# Altium footprint library SmallHandheldRev1.PcbLib: 31 footprints (part 1 of 2)
Each footprint in its own frame and in the unit in brackets; x right, y up, seen from the top. Pads: shape width x height; smd on the part's side, far side on the other; paste and mask are expansions set on the pad; w line width, h text height; cw(c..) or ccw(c..) is an arc to the next point about the centre after c.
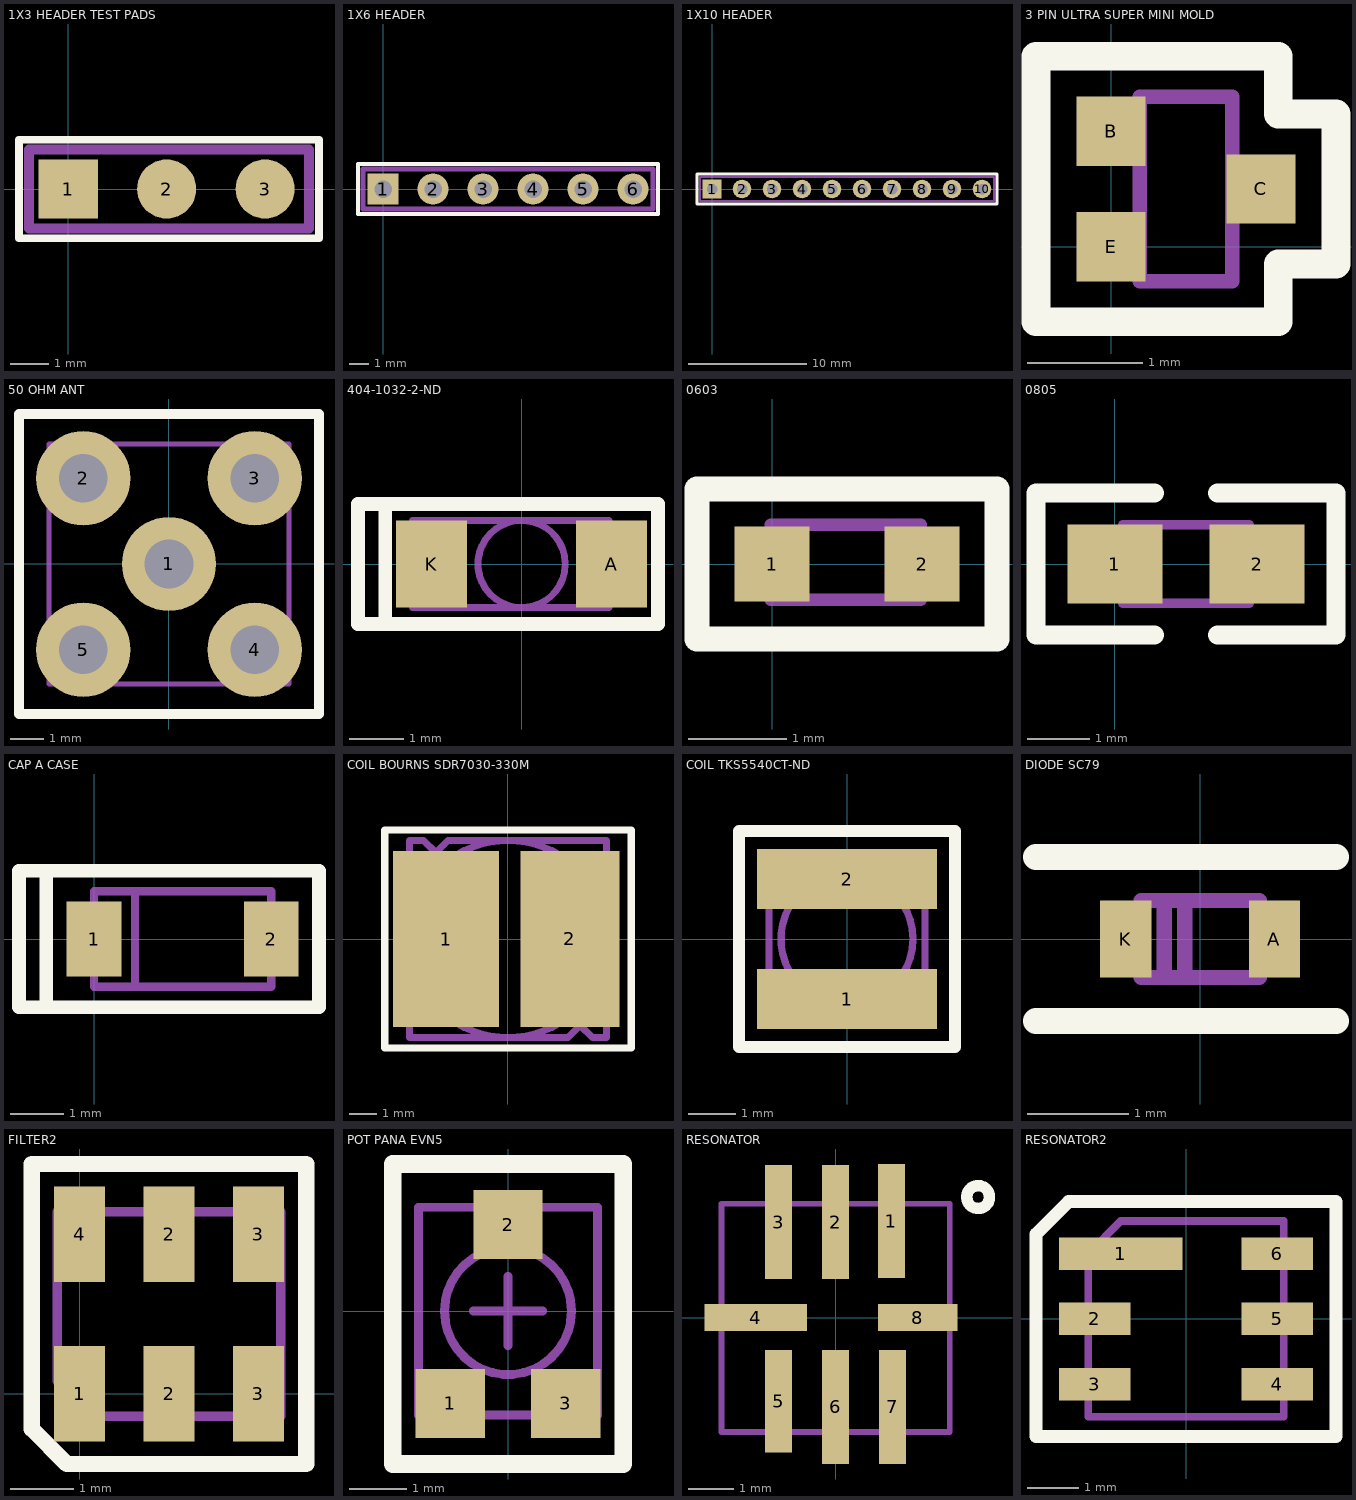
[diagram p0: the footprints below, top view; thin cyan lines are the x and y axes]

## 1X3 HEADER TEST PADS [mil]
pads (3):
  rect 60x60 smd: 1(0,0)
  round 60 smd: 2(100,0) 3(200,0)
Top Overlay:
  lines w8: -50,-50 -50,50 254.72,50 254.72,-50 -50,-50
Mechanical 1:
  lines w10: -40,-40 -40,40 244.72,40 244.72,-40 -40,-40
Mechanical 8:
  text ".Designator" at 102.37,33 h17
Mechanical 9:
  text ".Comment" at 46.37,-110 h40

## 1X6 HEADER [mil]
pads (6):
  rect 62x62 hole 35: 1(0,0)
  round 62 hole 35: 2(100,0) 3(200,0) 4(300,0) 5(400,0) 6(500,0)
Top Overlay:
  lines w8: -50,-50 550,-50 550,50 -50,50 -50,-50
Mechanical 1:
  lines w10: -40,-40 540,-40 540,40 -40,40 -40,-40

## 1X10 HEADER [mil]
pads (10):
  rect 62x62 hole 35: 1(0,0)
  round 62 hole 35: 2(100,0) 3(200,0) 4(300,0) 5(400,0) 6(500,0) 7(600,0) 8(700,0) 9(800,0) 10(900,0)
Top Overlay:
  lines w10: -50,-50 950,-50 950,50 -50,50 -50,0 -50,-50
Mechanical 1:
  lines w6: -40,-40 940,-40 940,40 -40,40 -40,-40
Mechanical 8:
  text ".Designator" at 41,7 h17

## 3 PIN ULTRA SUPER MINI MOLD [mm]
pads (3):
  rect 0.6x0.6 smd: B(0,1) C(1.3,0.5) E(0,0)
Top Overlay:
  lines w0.25: -0.65,-0.65 1.45,-0.65 1.45,-0.15 1.95,-0.15 1.95,1.15 1.45,1.15 1.45,1.65 -0.65,1.65 -0.65,1.6 -0.65,-0.65
Mechanical 1:
  lines w0.125: 0.25,-0.15 -0.15,-0.15 -0.15,0.15 0.25,0.15 ; 0.25,0.85 -0.15,0.85 -0.15,1.15 0.25,1.15 ; 1.05,0.35 1.45,0.35 1.45,0.65 1.05,0.65 ; 0.25,-0.3 0.25,1.3 1.05,1.3 1.05,-0.3 0.25,-0.3
Mechanical 8:
  text ".Designator" at 0.448,0.817 h0.43

## 50 OHM ANT [mil]
pads (5):
  round 110 hole 57: 1(0,0) 2(-100,100) 3(100,100) 4(100,-100) 5(-100,-100)
Top Overlay:
  lines w12: -175,-175 175,-175 175,0 175,175 -175,175 -175,-175
Mechanical 1:
  lines w6: -140,-140 140,-140 140,0 140,140 -140,140 -140,-140
Mechanical 8:
  text ".Designator" at 6,-17 h17

## 404-1032-2-ND [mm]
height 9.525
pads (2):
  rect 1.3x1.6 smd: A(1.65,0) K(-1.65,0)
Top Overlay:
  lines w0.25: -2.5,-1.1 -2.5,1.1 ; -2.5,-1.1 2.5,-1.1 2.5,1.1 -2.5,1.1 ; -2.5,-1.1 -3,-1.1 -3,1.1 -2.5,1.1
Mechanical 1:
  circle w0.127: c0,0 r0.8
  lines w0.127: 0,0.8 1.6,0.8 ; -1.6,-0.8 -2,-0.8 -2,0.8 -1.6,0.8 ; -1.6,-0.8 -1.6,0.8 ; -1.6,-0.8 1.6,-0.8 1.6,0.8 ; -1.6,0.8 1.6,0.8
Mechanical 8:
  text ".Designator" at 0.194,-0.762 h0.43

## 0603 [mil]
pads (2):
  rect 30x30 smd: 1(0,0) 2(60,0)
Top Overlay:
  lines w10: -30,-30 90,-30 90,30 -30,30 -30,0 -30,-30
Mechanical 1:
  lines w5: -0.53,-14.25 -0.53,15.75 59.47,15.75 59.47,-14.25 -0.53,-14.25
Mechanical 8:
  text ".Designator" at -10,-70 h30

## 0805 [mil]
pads (2):
  rect 60x50 smd: 1(0,0) 2(90,0)
Top Overlay:
  lines w12: 25,-45 -50,-45 -50,45 25,45 ; 65,-45 140,-45 140,45 65,45
Mechanical 1:
  lines w6: 5,-25 85,-25 85,25 5,25 5,-25
Mechanical 8:
  text ".Designator" at 34.52,12.88 h17

## CAP A CASE [mil]
pads (2):
  rect 40x55 smd: 1(0,0) 2(130,0)
Top Overlay:
  lines w10: -35,-50 165,-50 165,50 100,50 -35,50 ; -35,-50 -35,50 ; -35,-50 -55,-50 -55,50 -35,50
Mechanical 1:
  lines w6: 30,-35 30,35 ; 65,35 130,35 ; 130,0 130,-35 ; 130,-35 130,35 ; 130,-35 0,-35 0,35 130,35
Mechanical 8:
  text ".Designator" at 99.16,7.35 h17

## COIL BOURNS SDR7030-330M [mil]
pads (2):
  rect 150x250 smd: 1(-88,0)
  rect 140x250 smd: 2(88,0)
Top Overlay:
  lines w10: -175,-155 -175,0 -175,155 0,155 175,155 175,0 175,-155 0,-155 -175,-155
Mechanical 1:
  circle w10: c0,0 r140
  lines w10: -122.71,102.29 -140,119.58 -140,140 -120,140 -102.57,122.57 ; 102.57,-122.57 120,-140 140,-140 140,-119.58 122.71,-102.29 ; -140,-140 85,-140 140,-85 140,140 0,140 -85,140 -140,85 -140,-140
Mechanical 8:
  text ".Designator" at -0.63,23 h17
Mechanical 9:
  text ".Comment" at -181.63,25 h15

## COIL TKS5540CT-ND [mil]
pads (2):
  rect 150x50 smd: 1(0,-50) 2(0,50)
Top Overlay:
  lines w10: -90,-90 -60,-90 90,-90 90,0 90,90 60,90 -90,90 -90,0 -90,-90
Mechanical 1:
  circle w6: c0,0 r55
  lines w6: -65,-65 -65,65 65,65 65,0 65,-65 -65,-65
Mechanical 8:
  text ".Designator" at -7.46,10.17 h17

## DIODE SC79 [mil]
pads (2):
  rect 20x30 smd: A(29,0) K(-29,0)
Top Overlay:
  lines w10: -64,-32 -53,-32 -36,-32 53,-32 ; -64,32 -53,32 36,32 53,32
Mechanical 1:
  lines w6: -31,0 -23,0 ; -6,15 -6,-15 -14,-15 -14,15 -23,15 ; 0,15 -23,15 ; 23,0 31,0 ; -23,15 -23,-15 23,-15 23,15 -23,15
Mechanical 8:
  text ".Designator" at -13,-41 h17

## FILTER2 [mm]
pads (6):
  rect 0.8x1.5 smd: 1(0,0) 2(1.4,0) 2(1.4,2.5) 3(2.8,0) 3(2.8,2.5) 4(0,2.5)
Top Overlay:
  lines w0.254: -0.75,-0.55 -0.2,-1.1 3.55,-1.1 3.55,1.25 3.55,3.6 3,3.6 -0.75,3.6 -0.75,1.25 -0.75,-0.55
Mechanical 1:
  lines w0.152: 1.4,2.85 -0.35,2.85 ; -0.35,2.85 -0.35,0.2 0.2,-0.35 3.15,-0.35 3.15,2.85 -0.35,2.85
Mechanical 8:
  text ".Designator" at 1.307,1.711 h0.43

## POT PANA EVN5 [mm]
pads (3):
  rect 1.2x1.2 smd: 1(-1,-1.6) 2(0,1.5) 3(1,-1.6)
Top Overlay:
  lines w0.305: -2,-2.65 0,-2.65 2,-2.65 2,2.55 0,2.55 -2,2.55 -2,-2.65
Mechanical 1:
  circle w0.152: c0,0 r1.1
  lines w0.152: -0.6,0 0,0 ; 0,-0.6 0,0 ; 0,0.6 0,0 ; 0,1.8 -1.55,1.8 ; 0.6,0 0,0 ; -1.55,1.8 -1.55,-1.8 1.55,-1.8 1.55,1.8 -1.55,1.8
Mechanical 8:
  text ".Designator" at -0.547,-1.699 h0.43

## RESONATOR [mm]
pads (8):
  rect 0.6x2.54 smd: 1(1.245,2.159) 2(0,2.134) 3(-1.27,2.134) 6(0,-1.983) 7(1.27,-1.983)
  rect 2.286x0.6 smd: 4(-1.776,0.008)
  rect 0.6x2.286 smd: 5(-1.27,-1.856)
  rect 1.778x0.6 smd: 8(1.831,0.008)
Top Overlay:
  circle w0.254: c3.175,2.692 r0.254
Mechanical 1:
  lines w0.125: -2.54,-2.54 2.54,-2.54 2.54,0 2.54,2.54 -2.54,2.54 -2.54,-2.54
Mechanical 8:
  text ".Designator" at -0.02,0.373 h0.43

## RESONATOR2 [mil]
pads (6):
  rect 95x25 smd: 1(-50,50)
  rect 55x25 smd: 2(-70,0) 3(-70,-50) 4(70,-50) 5(70,0) 6(70,50)
Top Overlay:
  lines w10: -115,-90 0,-90 115,-90 115,50 115,90 0,90 -90,90 -115,65 -115,-50 -115,-90
Mechanical 1:
  lines w6: -75,-75 75,-75 75,75 0,75 -50,75 -75,50 -75,-75
Mechanical 8:
  text ".Designator" at -3.47,21.29 h17